# Altium footprint library PcbLib1.PcbLib: 12 footprints
Each footprint in its own frame and in the unit in brackets; x right, y up, seen from the top. Pads: shape width x height; smd on the part's side, far side on the other; paste and mask are expansions set on the pad; w line width, h text height; cw(c..) or ccw(c..) is an arc to the next point about the centre after c.
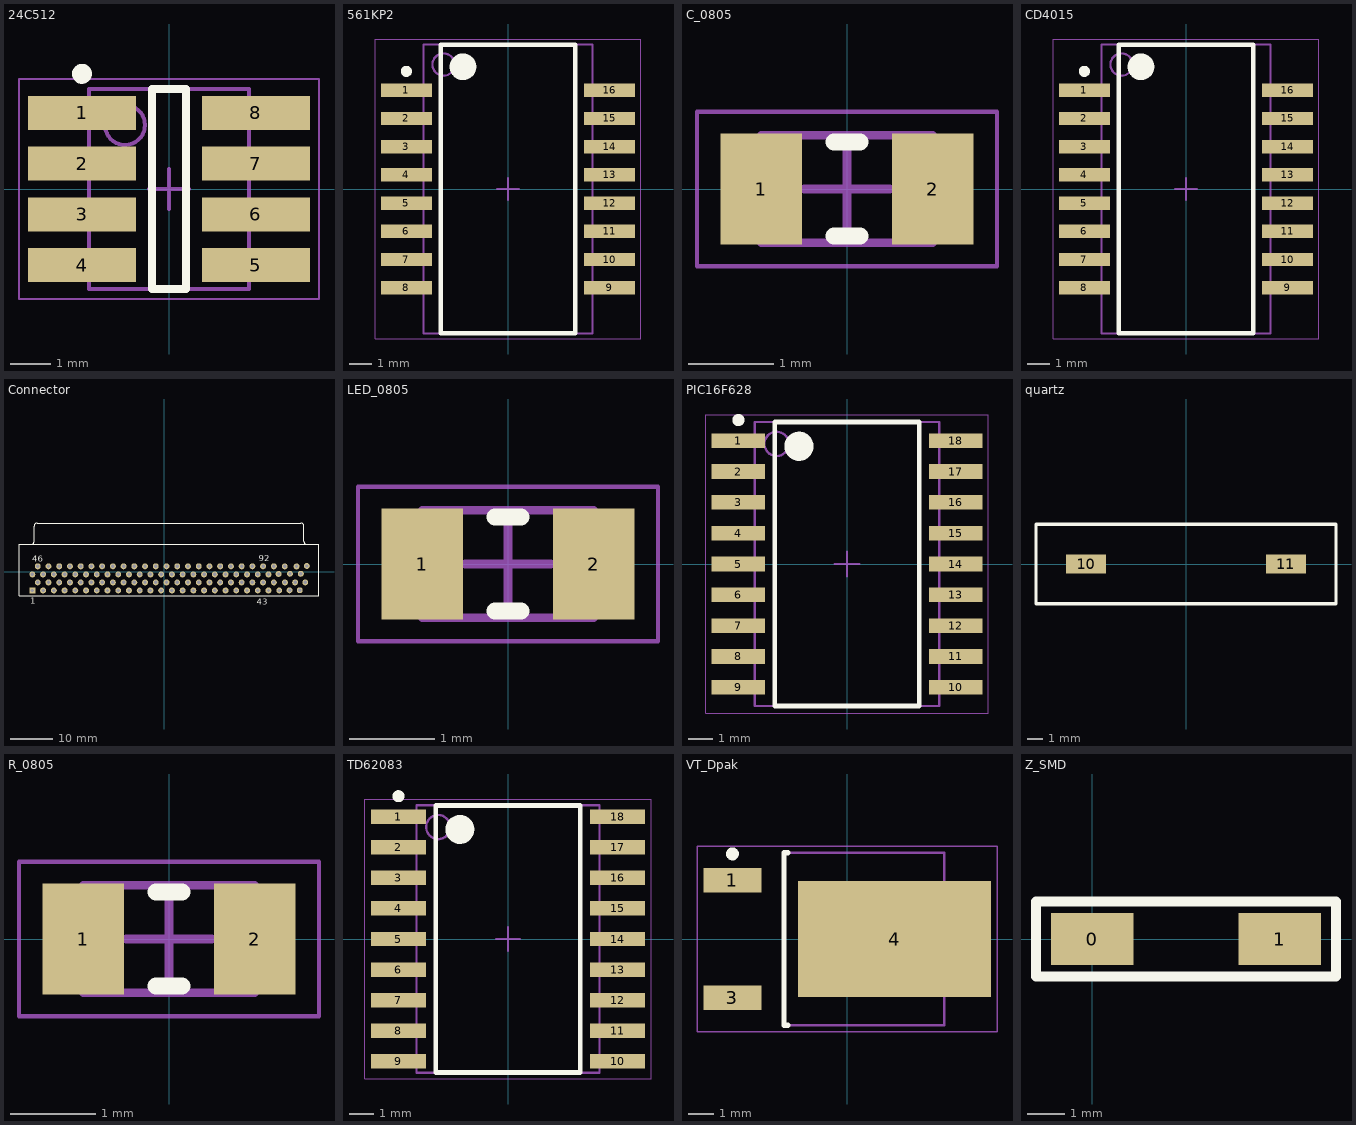
[diagram p0: the footprints below, top view; thin cyan lines are the x and y axes]

## 24C512 [mm] "SOIC, 8-Leads, Body 4,90x3,90mm, Pitch 1,27mm, IPC Medium Density"
height 1.75
pads (8):
  rect 2.7x0.85 smd: 1(-2.175,1.905) 2(-2.175,0.635) 3(-2.175,-0.635) 4(-2.175,-1.905) 5(2.175,-1.905) 6(2.175,-0.635) 7(2.175,0.635) 8(2.175,1.905)
Top Overlay:
  circle w0.25: c-2.175,2.88 r0.125
  lines w0.2: -0.425,-2.5 0.425,-2.5 0.425,2.5 -0.425,2.5 -0.425,-2.5
Mechanical 13:
  circle w0.1: c-1.1,1.6 r0.5
  lines w0.1: -2,-2.5 2,-2.5 2,2.5 -2,2.5 -2,-2.5
Mechanical 15:
  lines w0.05: -3.75,-2.75 3.75,-2.75 3.75,2.75 -3.75,2.75 -3.75,-2.75
  lines w0.1: -0.5,0 0.5,0 ; 0,-0.5 0,0.5
3D body: height 1.75, standoff 0.2, extent -2,-2.5 2,2.5

## 561KP2 [mm] "SOIC, 16-Leads, Body 12,80x7,50mm, Pitch 1,27mm, IPC Medium Density"
height 2.65
pads (16):
  rect 2.3x0.6 smd: 1(-4.575,4.445) 2(-4.575,3.175) 3(-4.575,1.905) 4(-4.575,0.635) 5(-4.575,-0.635) 6(-4.575,-1.905) 7(-4.575,-3.175) 8(-4.575,-4.445) 9(4.575,-4.445) 10(4.575,-3.175) 11(4.575,-1.905) 12(4.575,-0.635) 13(4.575,0.635) 14(4.575,1.905) 15(4.575,3.175) 16(4.575,4.445)
Top Overlay:
  circle w0.25: c-4.575,5.295 r0.125
  circle w0.6: c-2.025,5.5 r0.3
  lines w0.2: -3.025,-6.5 -3.025,6.5 3.025,6.5 3.025,-6.5 -3.025,-6.5
Mechanical 13:
  circle w0.1: c-2.9,5.6 r0.5
  lines w0.1: -3.8,-6.5 -3.8,6.5 3.8,6.5 3.8,-6.5 -3.8,-6.5
Mechanical 15:
  lines w0.05: -5.975,-6.75 -5.975,6.75 5.975,6.75 5.975,-6.75 -5.975,-6.75
  lines w0.1: -0.5,0 0.5,0 ; 0,-0.5 0,0.5
3D body: height 2.65, standoff 0.2, extent -3.8,-6.5 3.8,6.5

## C_0805 [mm] "Chip Resistor, 2-Leads, Body 2,00x1,25mm, IPC Medium Density"
height 0.6
pads (2):
  rect 0.95x1.3 smd: 1(-1,0) 2(1,0)
Top Overlay:
  lines w0.2: -0.15,-0.55 0.15,-0.55 ; -0.15,0.55 0.15,0.55
Mechanical 13:
  lines w0.1: -1,-0.625 -1,0.625 1,0.625 1,-0.625 -1,-0.625
Mechanical 15:
  lines w0.05: -1.75,-0.9 -1.75,0.9 1.75,0.9 1.75,-0.9 -1.75,-0.9
  lines w0.1: -0.5,0 0.5,0 ; 0,-0.5 0,0.5
3D body: height 0.6, standoff 0, extent -0.5,-0.625 0.5,0.625
3D body: height 0.6, standoff 0, extent -1,-0.625 -0.5,0.625
3D body: height 0.6, standoff 0, extent 0.5,-0.625 1,0.625

## CD4015 [mm] "SOIC, 16-Leads, Body 12,80x7,50mm, Pitch 1,27mm, IPC Medium Density"
height 2.65
pads (16):
  rect 2.3x0.6 smd: 1(-4.575,4.445) 2(-4.575,3.175) 3(-4.575,1.905) 4(-4.575,0.635) 5(-4.575,-0.635) 6(-4.575,-1.905) 7(-4.575,-3.175) 8(-4.575,-4.445) 9(4.575,-4.445) 10(4.575,-3.175) 11(4.575,-1.905) 12(4.575,-0.635) 13(4.575,0.635) 14(4.575,1.905) 15(4.575,3.175) 16(4.575,4.445)
Top Overlay:
  circle w0.25: c-4.575,5.295 r0.125
  circle w0.6: c-2.025,5.5 r0.3
  lines w0.2: -3.025,-6.5 -3.025,6.5 3.025,6.5 3.025,-6.5 -3.025,-6.5
Mechanical 13:
  circle w0.1: c-2.9,5.6 r0.5
  lines w0.1: -3.8,-6.5 -3.8,6.5 3.8,6.5 3.8,-6.5 -3.8,-6.5
Mechanical 15:
  lines w0.05: -5.975,-6.75 -5.975,6.75 5.975,6.75 5.975,-6.75 -5.975,-6.75
  lines w0.1: -0.5,0 0.5,0 ; 0,-0.5 0,0.5
3D body: height 2.65, standoff 0.2, extent -3.8,-6.5 3.8,6.5

## Connector [mm]
pads (105):
  rect 1.4x1.4 hole 0.8: 1(-31.229,-4.405)
  round 1.4 hole 0.8: 2(-29.959,-2.5) 3(-28.689,-4.405) 4(-27.419,-2.5) 5(-26.149,-4.405) 6(-24.879,-2.5) 7(-23.609,-4.405) 8(-22.339,-2.5) 9(-21.069,-4.405) 10(-19.799,-2.5) 11(-18.529,-4.405) 12(-17.259,-2.5) 13(-15.989,-4.405) 14(-14.719,-2.5) 15(-13.449,-4.405) 16(-12.179,-2.5) 17(-10.909,-4.405) 18(-9.639,-2.5) 19(-8.369,-4.405) 20(-7.099,-2.5) 21(-5.829,-4.405) 22(-4.559,-2.5) 23(-3.289,-4.405) 24(-2.019,-2.5) 25(-0.749,-4.405) 26(0.521,-2.5) 27(1.791,-4.405) 28(3.061,-2.5) 29(4.331,-4.405) 30(5.601,-2.5) 31(6.871,-4.405) 32(8.141,-2.5) 33(9.411,-4.405) 34(10.681,-2.5) 35(11.951,-4.405) 36(13.221,-2.5) 37(14.491,-4.405) 38(15.761,-2.5) 39(17.031,-4.405) 40(18.301,-2.5) 41(19.571,-4.405) 42(20.841,-2.5) 43(22.111,-4.405) 44(23.381,-2.5) 45(24.651,-4.405) 46(25.921,-2.5) 47(27.191,-4.405) 47(27.191,-4.405) 49(-31.229,-0.595) 50(-29.959,1.31) 51(-28.689,-0.595) 52(-27.419,1.31) 53(-26.149,-0.595) 54(-24.879,1.31) 55(-23.609,-0.595) 56(-22.339,1.31) 57(-21.069,-0.595) 58(-19.799,1.31) 59(-18.529,-0.595) 60(-17.259,1.31) 61(-15.989,-0.595) 62(-14.719,1.31) 63(-13.449,-0.595) 64(-12.179,1.31) 65(-10.909,-0.595) 66(-9.639,1.31) 67(-8.369,-0.595) 68(-7.099,1.31) 69(-5.829,-0.595) 70(-4.559,1.31) 71(-3.289,-0.595) 72(-2.019,1.31) 73(-0.749,-0.595) 74(0.521,1.31) 75(1.791,-0.595) 76(3.061,1.31) 77(4.331,-0.595) 78(5.601,1.31) 79(6.871,-0.595) 80(8.141,1.31) 81(9.411,-0.595) 82(10.681,1.31) 83(11.951,-0.595) 84(13.221,1.31) 85(14.491,-0.595) 86(15.761,1.31) 87(17.031,-0.595) 88(18.301,1.31) 89(19.571,-0.595) 90(20.841,1.31) 91(22.111,-0.595) 92(23.381,1.31) 93(24.651,-0.595) 94(25.921,1.31) 95(27.041,-0.5) 96(28.541,-2.5) 97(29.642,-4.369) 98(28.499,1.295) 99(29.743,-0.457) 100(30.963,-2.489) 101(32.055,-4.343) 102(31.293,1.295) 103(32.309,-0.457) 104(33.35,-2.489) 105(33.731,1.397)
Top Overlay:
  lines w0.2: -31.517,6.505 ccw(c-31.517,7.2) -30.822,7.2 -30.822,10.83 cw(c-30.127,10.83) -30.127,11.525 ; -30.127,11.5 32.343,11.5 ; 32.343,11.525 cw(c32.343,10.83) 33.038,10.83 33.038,7.2 ccw(c33.733,7.2) 33.733,6.505 ; -34.392,-5.7 -34.392,6.5 36.608,6.5 36.608,-5.7 -34.392,-5.7
  text "92" at 22.327,2.464 h1.5
  text "46" at -31.209,2.385 h1.5
  text "1" at -31.75,-7.518 h1.5
  text "43" at 21.92,-7.798 h1.5

## LED_0805 [mm] "Chip Resistor, 2-Leads, Body 2,00x1,25mm, IPC Medium Density"
height 0.6
pads (2):
  rect 0.95x1.3 smd: 1(-1,0) 2(1,0)
Top Overlay:
  lines w0.2: -0.15,-0.55 0.15,-0.55 ; -0.15,0.55 0.15,0.55
Mechanical 13:
  lines w0.1: -1,-0.625 1,-0.625 1,0.625 -1,0.625 -1,-0.625
Mechanical 15:
  lines w0.05: -1.75,-0.9 1.75,-0.9 1.75,0.9 -1.75,0.9 -1.75,-0.9
  lines w0.1: -0.5,0 0.5,0 ; 0,-0.5 0,0.5
3D body: height 0.6, standoff 0, extent 0.5,-0.625 1,0.625
3D body: height 0.6, standoff 0, extent -1,-0.625 -0.5,0.625
3D body: height 0.6, standoff 0, extent -0.5,-0.625 0.5,0.625

## PIC16F628 [mm] "SOIC, 18-Leads, Body 11,58x7,50mm, Pitch 1,27mm, IPC Medium Density"
height 2.65
pads (18):
  rect 2.2x0.6 smd: 1(-4.475,5.08) 2(-4.475,3.81) 3(-4.475,2.54) 4(-4.475,1.27) 5(-4.475,0) 6(-4.475,-1.27) 7(-4.475,-2.54) 8(-4.475,-3.81) 9(-4.475,-5.08) 10(4.475,-5.08) 11(4.475,-3.81) 12(4.475,-2.54) 13(4.475,-1.27) 14(4.475,0) 15(4.475,1.27) 16(4.475,2.54) 17(4.475,3.81) 18(4.475,5.08)
Top Overlay:
  circle w0.6: c-1.975,4.85 r0.3
  circle w0.25: c-4.475,5.93 r0.125
  lines w0.2: -2.975,-5.85 2.975,-5.85 2.975,5.85 -2.975,5.85 -2.975,-5.85
Mechanical 13:
  circle w0.1: c-2.9,4.95 r0.5
  lines w0.1: -3.8,-5.85 3.8,-5.85 3.8,5.85 -3.8,5.85 -3.8,-5.85
Mechanical 15:
  lines w0.05: -5.825,-6.15 5.825,-6.15 5.825,6.15 -5.825,6.15 -5.825,-6.15
  lines w0.1: -0.5,0 0.5,0 ; 0,-0.5 0,0.5
3D body: height 2.65, standoff 0.1, extent -3.8,-5.85 3.8,5.85

## quartz [mm]
height 2.25
pads (2):
  rect 2.5x1.2 smd: 10(-6.3,0) 11(6.3,0)
Top Overlay:
  lines w0.2: -9.45,-2.5 9.45,-2.5 9.45,2.5 -9.45,2.5 -9.45,0 -9.45,-2.5

## R_0805 [mm] "Chip Resistor, 2-Leads, Body 2,00x1,25mm, IPC Medium Density"
height 0.6
pads (2):
  rect 0.95x1.3 smd: 1(-1,0) 2(1,0)
Top Overlay:
  lines w0.2: -0.15,-0.55 0.15,-0.55 ; -0.15,0.55 0.15,0.55
Mechanical 13:
  lines w0.1: -1,-0.625 1,-0.625 1,0.625 -1,0.625 -1,-0.625
Mechanical 15:
  lines w0.05: -1.75,-0.9 1.75,-0.9 1.75,0.9 -1.75,0.9 -1.75,-0.9
  lines w0.1: -0.5,0 0.5,0 ; 0,-0.5 0,0.5
3D body: height 0.6, standoff 0, extent 0.5,-0.625 1,0.625
3D body: height 0.6, standoff 0, extent -1,-0.625 -0.5,0.625
3D body: height 0.6, standoff 0, extent -0.5,-0.625 0.5,0.625

## TD62083 [mm] "SOP, 18-Leads, Body 10,80x7,50mm, Pitch 1,27mm, IPC Medium Density"
height 2.29
pads (18):
  rect 2.3x0.6 smd: 1(-4.55,5.08) 2(-4.55,3.81) 3(-4.55,2.54) 4(-4.55,1.27) 5(-4.55,0) 6(-4.55,-1.27) 7(-4.55,-2.54) 8(-4.55,-3.81) 9(-4.55,-5.08) 10(4.55,-5.08) 11(4.55,-3.81) 12(4.55,-2.54) 13(4.55,-1.27) 14(4.55,0) 15(4.55,1.27) 16(4.55,2.54) 17(4.55,3.81) 18(4.55,5.08)
Top Overlay:
  circle w0.6: c-2,4.55 r0.3
  circle w0.25: c-4.55,5.93 r0.125
  lines w0.2: -3,-5.55 3,-5.55 3,5.55 -3,5.55 -3,-5.55
Mechanical 13:
  circle w0.1: c-2.9,4.65 r0.5
  lines w0.1: -3.8,-5.55 3.8,-5.55 3.8,5.55 -3.8,5.55 -3.8,-5.55
Mechanical 15:
  lines w0.05: -5.95,-5.8 5.95,-5.8 5.95,5.8 -5.95,5.8 -5.95,-5.8
  lines w0.1: -0.5,0 0.5,0 ; 0,-0.5 0,0.5
3D body: height 2.29, standoff 0.1, extent -3.8,-5.55 3.8,5.55

## VT_Dpak [mm] "D-PAK, 3-Pads, Body 6,21x6,72mm (max), IPC Medium Density"
height 2.39
pads (3):
  rect 2.25x0.95 smd: 1(-4.45,2.28) 3(-4.45,-2.28)
  rect 7.5x4.5 smd: 4(1.85,0)
Top Overlay:
  circle w0.25: c-4.45,3.305 r0.125
  lines w0.2: -2.3,-3.35 -2.45,-3.35 -2.45,3.35 -2.3,3.35
Mechanical 13:
  lines w0.1: -2.45,-3.35 3.77,-3.35 3.77,3.35 -2.45,3.35 -2.45,-3.35
Mechanical 15:
  lines w0.05: -5.825,-3.6 5.825,-3.6 5.825,3.6 -5.825,3.6 -5.825,-3.6
  lines w0.1: -0.5,0 0.5,0 ; 0,-0.5 0,0.5
3D body: height 2.39, standoff 0.46, extent -2.45,-3.35 3.77,3.35

## Z_SMD [mm]
height 1.3
pads (2):
  rect 2.2x1.4 smd: 0(0,0) 1(5,0)
Top Overlay:
  lines w0.254: -1.5,-1 6.5,-1 6.5,1 -1.5,1 -1.5,-1